# Altium schematic symbol library ISO.SchLib: 3 symbols
Pins are listed as number, name and electrical type; pins without a type are passive.

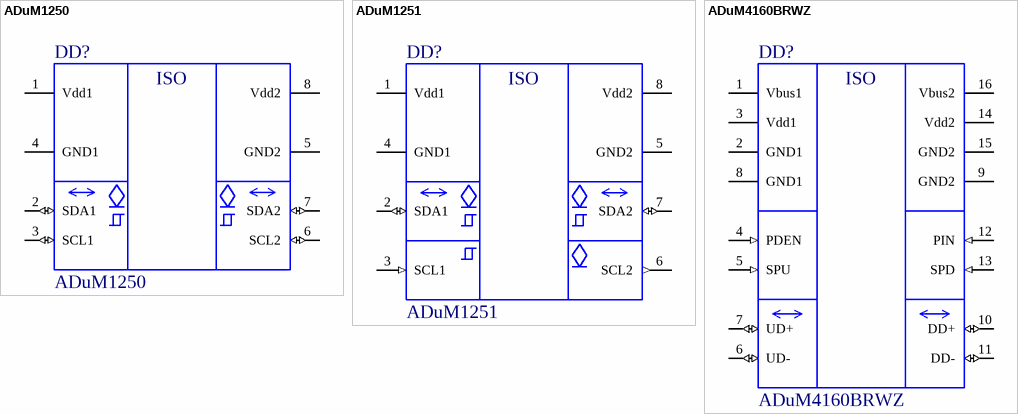
[diagram p0: symbols ADuM1250 to ADuM4160BRWZ]

## ADuM1250
designator DD?
Dual I2C Isolators (Hot Swappable); ValueSch: ADuM1250
pins: 1 Vdd1 (power) "Suppy Voltage 1", 2 SDA1 (io) "SDA1 Data Input/Output, Side 1", 3 SCL1 (io) "SCL1 Clock Input/Output, Side1", 4 GND1 (power) "GND1 Ground 1. Ground reference for Isolator Side 1.", 5 GND2 (power) "GND2 Ground 1. Ground reference for Isolator Side 2.", 6 SCL2 (io) "SCL2 Clock Input/Output, Side2", 7 SDA2 (io) "SDA2 Data Input/Output, Side 2", 8 Vdd2 (power) "Suppy Voltage 2"
text: ISO

## ADuM1251
designator DD?
Dual I2C Isolators (Hot Swappable); ValueSch: ADuM1251
pins: 1 Vdd1 (power) "Suppy Voltage 1", 2 SDA1 (io) "SDA1 Data Input/Output, Side 1", 3 SCL1 (in) "SCL1 Clock Input, Side1", 4 GND1 (power) "GND1 Ground 1. Ground reference for Isolator Side 1.", 5 GND2 (power) "GND2 Ground 1. Ground reference for Isolator Side 2.", 6 SCL2 (out) "SCL2 Clock Output, Side2", 7 SDA2 (io) "SDA2 Data Input/Output, Side 2", 8 Vdd2 (power) "Suppy Voltage 2"
text: ISO

## ADuM4160BRWZ
designator DD?
ValueSch: ADuM4160BRWZ
pins: 1 Vbus1 (power), 2 GND1 (power), 3 Vdd1 (power), 4 PDEN (in), 5 SPU (in), 6 UD- (io), 7 UD+ (io), 8 GND1 (power), 9 GND2 (power), 10 DD+ (io), 11 DD- (io), 12 PIN (in), 13 SPD (in), 14 Vdd2 (power), 15 GND2 (power), 16 Vbus2 (power)
text: ISO